# Altium footprint library balenaFinLib.PcbLib: 75 footprints (part 4 of 5)
Each footprint in its own frame and in the unit in brackets; x right, y up, seen from the top. Pads: shape width x height; smd on the part's side, far side on the other; paste and mask are expansions set on the pad; w line width, h text height; cw(c..) or ccw(c..) is an arc to the next point about the centre after c.
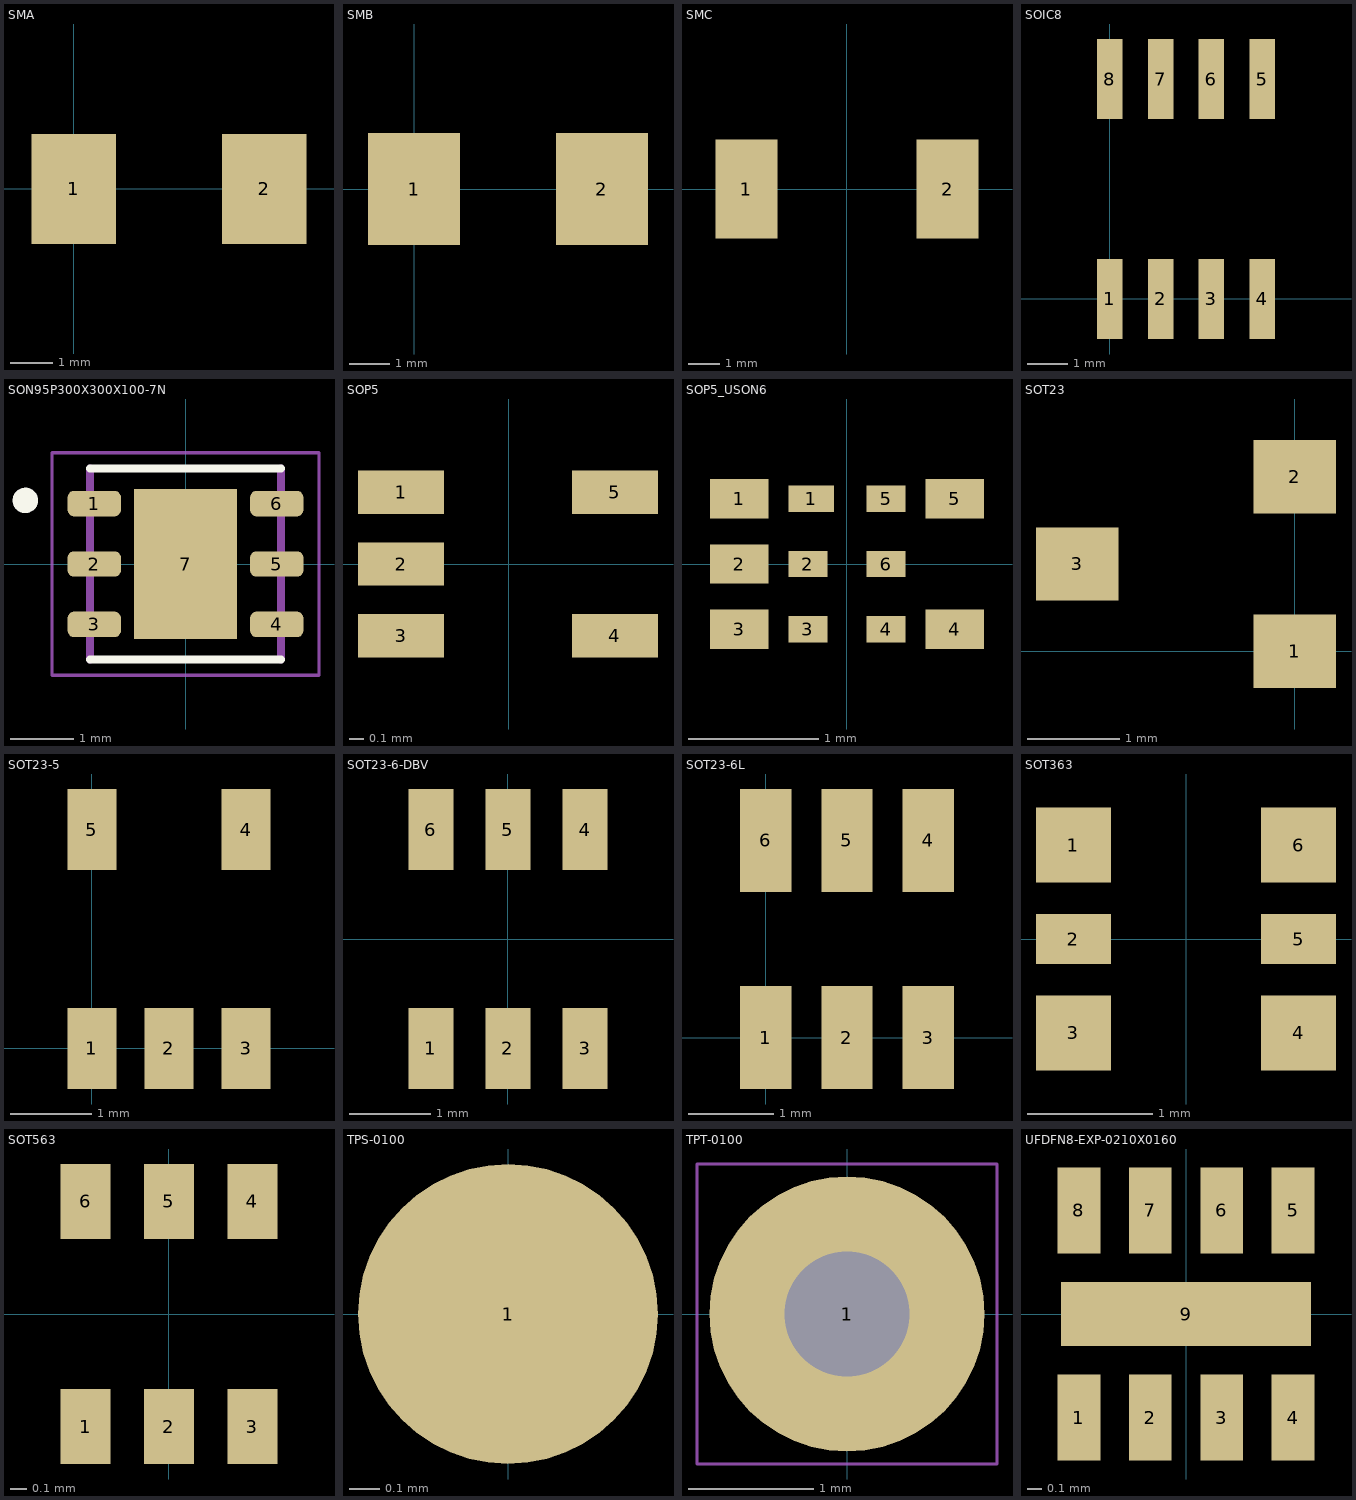
[diagram p3: the footprints below, top view; thin cyan lines are the x and y axes]

## SMA [mm]
pads (2):
  rect 2x2.6 smd: 1(0,0) 2(4.5,0)
Mechanical 46:
  text "1" at 0.096,-0.228 h0.2
  text "2" at 4.575,-0.266 h0.2
3D body: height 3.81, standoff 0, extent -1.5,-1.8 6,1.8

## SMB [mm]
pads (2):
  rect 2.3x2.8 smd: 1(0,0) 2(4.7,0)
Mechanical 46:
  text "1" at -0.061,-0.09 h0.2
  text "2" at 4.628,-0.122 h0.2
3D body: height 3.81, standoff 0, extent -1.15,-2.2 5.85,2.2

## SMC [mm]
pads (2):
  rect 2x3.2 smd: 1(-3.25,0) 2(3.25,0)
Mechanical 46:
  text "1" at -3.144,0.086 h0.2
  text "2" at 3.334,0.068 h0.2
3D body: height 3.81, standoff 0, extent -4.35,-3.2 4.35,3.4

## SOIC8 [mil]
pads (8):
  rect 25x78.87 smd: 1(0,0) 2(50,0) 3(100,0) 4(150,0) 5(150,216) 6(100,216) 7(50,216) 8(0,216)
Mechanical 46:
  text "6" at 96.96,214.07 h7.87
  text "5" at 147.2,213.14 h7.87
  text "3" at 97.69,-3.8 h7.87
  text "2" at 47.81,-3.43 h7.87
  text "1" at -2.31,-2.69 h7.87
  text "4" at 147.74,-3.61 h7.87
  text "8" at -2.32,213.89 h7.87
  text "7" at 47.46,214.05 h7.87
3D body: height 150, standoff 0, extent -27.36,-43.31 185.04,259.31

## SON95P300X300X100-7N [mm]
pads (7):
  rrect50% 0.84x0.4 smd: 1(-1.435,0.95) 2(-1.435,0) 3(-1.435,-0.95) 4(1.435,-0.95) 5(1.435,0) 6(1.435,0.95)
  rect 1.625x2.365 smd paste-2: 7(0,0)
Top Overlay:
  circle w0.2: c-2.52,1 r0.1
  lines w0.127: -1.5,-1.5 1.5,-1.5 ; -1.5,1.5 1.5,1.5
Top Paste:
  region: 0.57,-0.83 -0.57,-0.83 -0.57,0.83 0.57,0.83
Mechanical 13:
  lines w0.127: -1.5,-1.5 -1.5,1.5 ; 1.5,-1.5 1.5,1.5
Mechanical 15:
  lines w0.05: -2.1,-1.75 2.1,-1.75 2.1,1.75 -2.1,1.75 -2.1,-1.75

## SOP5 [mm]
pads (5):
  rect 0.6x0.3 smd: 1(-0.75,0.5) 2(-0.75,0) 3(-0.75,-0.5) 4(0.74,-0.5) 5(0.74,0.5)
Mechanical 46:
  text "4" at 0.671,-0.603 h0.2
  text "2" at -0.811,-0.099 h0.2
  text "1" at -0.804,0.406 h0.2
  text "5" at 0.685,0.402 h0.2
  text "3" at -0.808,-0.596 h0.2
3D body "DRL0005A.stp": height 0.6, standoff 0, extent -0.8,-0.8 0.8,0.8
3D body: height 0.25, standoff 0, extent 1.63,0.51 1.63,0.51

## SOP5_USON6 [mm]
pads (11):
  rect 0.45x0.3 smd mask+0: 1(-0.825,0.5) 2(-0.825,0) 3(-0.825,-0.5) 4(0.825,-0.5) 5(0.825,0.5)
  rect 0.35x0.2 smd mask+0: 1(-0.275,0.5)
  rect 0.3x0.2 smd mask+0: 2(-0.3,0) 3(-0.3,-0.5) 4(0.3,-0.5) 5(0.3,0.5) 6(0.3,0)
Top Solder:
  rectangle: 0.06,-0.75 0.45,0.75
  rectangle: -0.45,-0.75 -0.06,0.75
  rectangle: 0.6,-0.75 1.15,0.75
  rectangle: -1.15,-0.75 -0.6,0.75
  pour cut-out: -0.37,0.65
Mechanical 46:
  text "4" at 0.671,-0.603 h0.2
  text "2" at -0.811,-0.099 h0.2
  text "1" at -0.804,0.406 h0.2
  text "5" at 0.685,0.402 h0.2
  text "3" at -0.808,-0.596 h0.2
3D body "DRY0006A.stp": height 0.58, standoff 0, extent -0.5,-0.725 0.5,0.725
3D body "DRL0005A.stp": height 0.6, standoff 0, extent -0.8,-0.8 0.8,0.8

## SOT23 [mm]
pads (3):
  rect 0.9x0.8 smd: 1(0,0) 2(0,1.9)
  rect 0.9x0.8 smd mask+0.12: 3(-2.37,0.95)
Mechanical 46:
  text "1" at 0.02,-0.05 h0.2
  text "2" at -0.06,1.95 h0.2
  text "3" at -2.35,0.95 h0.2
3D body: height 3.81, standoff 0, extent -2.87,-0.7 0.5,2.6

## SOT23-5 [mm]
pads (5):
  rect 0.6x1 smd: 1(0,0) 2(0.95,0) 3(1.9,0) 4(1.9,2.7) 5(0,2.7)
Mechanical 46:
  text "5" at 0.081,2.585 h0.2
  text "4" at 1.956,2.604 h0.2
  text "3" at 1.965,-0.096 h0.2
  text "1" at 0.079,-0.085 h0.2
  text "2" at 1.026,-0.092 h0.2
3D body: height 3.81, standoff 0, extent -0.55,-0.5 2.45,3.2

## SOT23-6-DBV [mm]
pads (6):
  rect 0.55x1 smd: 1(-0.95,-1.35) 2(0,-1.35) 3(0.95,-1.35) 4(0.95,1.35) 5(0,1.35) 6(-0.95,1.35)
Mechanical 46:
  text "6" at -0.95,1.43 h0.2
  text "4" at 0.95,1.43 h0.2
  text "3" at 0.95,-1.27 h0.2
  text "1" at -0.95,-1.27 h0.2
  text "5" at 0,1.43 h0.2
  text "2" at 0,-1.27 h0.2
3D body: height 3.81, standoff 0, extent -1.725,-1.95 1.725,1.95

## SOT23-6L [mm]
pads (6):
  rect 0.6x1.2 smd: 1(0,0) 2(0.95,0) 3(1.9,0) 4(1.9,2.3) 5(0.95,2.3) 6(0,2.3)
Mechanical 46:
  text "2" at 1.08,0.06 h0.2
  text "1" at 0.13,0.06 h0.2
  text "3" at 2.03,0.06 h0.2
  text "4" at 2.03,2.36 h0.2
  text "6" at 0.13,2.36 h0.2
  text "5" at 1.08,2.36 h0.2
3D body: height 3.81, standoff 0, extent -0.6,-0.6 2.5,2.9

## SOT363 [mm]
pads (6):
  rect 0.6x0.6 smd mask+0.13: 1(-0.9,0.75) 3(-0.9,-0.75) 4(0.9,-0.75) 6(0.9,0.75)
  rect 0.6x0.4 smd mask+0.13: 2(-0.9,0) 5(0.9,0)
Mechanical 46:
  text "4" at 0.77,-0.8 h0.2
  text "1" at -0.98,0.65 h0.2
  text "3" at -1.03,-0.8 h0.2
  text "6" at 0.77,0.6 h0.2
  text "5" at 0.82,-0.1 h0.2
  text "2" at -0.98,-0.1 h0.2
3D body: height 3.81, standoff 0, extent -1.525,-1.375 1.525,1.375

## SOT563 [mm]
pads (6):
  rect 0.3x0.45 smd: 1(-0.5,-0.675) 2(0,-0.675) 3(0.5,-0.675) 4(0.5,0.675) 5(0,0.675) 6(-0.5,0.675)
Mechanical 46:
  text "3" at 0.6,-0.582 h0.2
  text "6" at -0.4,0.768 h0.2
  text "1" at -0.4,-0.582 h0.2
  text "4" at 0.6,0.768 h0.2
  text "2" at 0.1,-0.582 h0.2
  text "5" at 0.1,0.768 h0.2
3D body: height 3.81, standoff 0, extent -1,-0.95 1,0.95

## TPS-0100 [mm]
pads (1):
  round 1 smd mask+0.13: 1(0,0)
Mechanical 46:
  text "1" at -0.251,0.085 h0.2
3D body: height 3.81, standoff 0, extent -0.6,-0.6 0.6,0.6

## TPT-0100 [mm]
pads (1):
  round 2.2 hole 1: 1(0,0)
Mechanical 7:
  lines w0.025: -1.2,-1.2 1.2,-1.2 1.2,1.2 -1.2,1.2 -1.2,-1.2
Mechanical 46:
  text "1" at -0.052,-0.061 h0.2

## UFDFN8-EXP-0210X0160 [mm]
pads (9):
  rect 0.3x0.6 smd: 1(-0.75,-0.725) 2(-0.25,-0.725) 3(0.25,-0.725) 4(0.75,-0.725) 5(0.75,0.725) 6(0.25,0.725) 7(-0.25,0.725) 8(-0.75,0.725)
  rect 1.75x0.45 smd: 9(0,0)
Mechanical 46:
  text "3" at 0.33,-0.725 h0.2
  text "6" at 0.33,0.725 h0.2
  text "4" at 0.83,-0.725 h0.2
  text "2" at -0.17,-0.725 h0.2
  text "1" at -0.67,-0.725 h0.2
  text "9" at 0.08,0 h0.2
  text "8" at -0.67,0.725 h0.2
  text "7" at -0.17,0.725 h0.2
  text "5" at 0.83,0.725 h0.2
3D body: height 3.81, standoff 0, extent -1.3,-1.25 1.3,1.25